# EAGLE library part USB-MICRO-B (library _USB_sockets)
USB MICRO B SOCKET 2 shielded pins
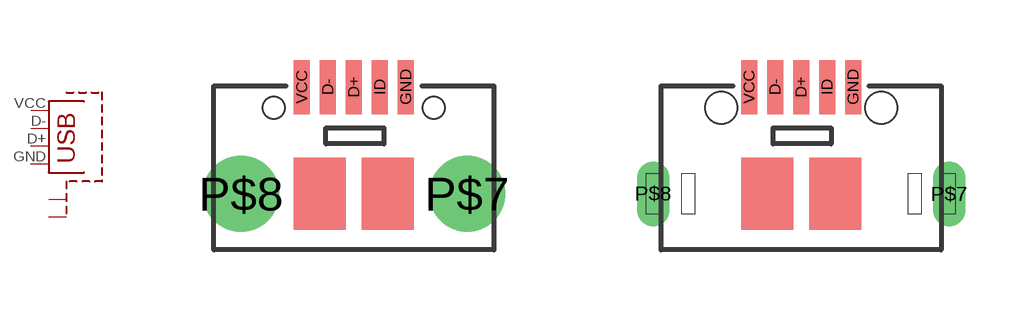
[diagram p1: symbol with the pads of USB-MICRO-B-5F; footprints USB-MICRO-B-5F, USB-MICRO-B-UNIVERSAL]

Designator prefix -

## USB-MICRO-B  [USB-MICRO-B-5F]
D+  D+
D-  D-
GND  GND
P$7  SHIELD1
P$8  SHIELD2
VCC  VBUS

## USB-MICRO-B-UNIVERSAL  [USB-MICRO-B-UNIVERSAL]
Pads as for USB-MICRO-B-5F

## USB-MICRO-B-EVT  [USB-MICRO-B-UNIVERSAL-SOLID-FOOTS]
D+  D+
D-  D-
GND  GND
P$1  SHIELD1
P$2  SHIELD2
VCC  VBUS

## Footprint USB-MICRO-B-5F (pad centres in mm)
USB Series Micro-B Surface mounted with holes
smd 0.4 x 1.35: D+ 0,-0.03; D- -0.65,-0.03; GND 1.3,-0.03; ID 0.65,-0.03; VCC -1.3,-0.03
drill 1.1 pad 1.9: P$7 2.83,-2.7; P$8 -2.82,-2.7
hole 0.55 at -2,-0.55
hole 0.55 at 2,-0.55

## Footprint USB-MICRO-B-UNIVERSAL (pad centres in mm)
It's universal micro-B socket adjustable for 2 different types of socket. Demand from the procurement unit, avoid materials in short supply. Holes need to be milled places on milling (46) layer
smd 0.4 x 1.35: D+ 0,-0.03; D- -0.65,-0.03; GND 1.3,-0.03; ID 0.65,-0.03; VCC -1.3,-0.03
drill 0.3 pad 0.813 long: P$7 3.7,-2.71; P$8 -3.7,-2.7
hole 0.8 at -2,-0.55
hole 0.8 at 2,-0.55

## Footprint USB-MICRO-B-UNIVERSAL-SOLID-FOOTS (pad centres in mm)
It's universal micro-B socket adjustable for 2 different types of socket (EVT-revision) . Demand from the procurement unit, avoid materials in short supply. Holes need to be milled places on milling (46) layer -- 5x1mm foot slots -- solid 2-sided foot rectangle
smd 0.4 x 1.35: D+ 0,-0.03; D- -0.65,-0.03; GND 1.3,-0.03; ID 0.65,-0.03; VCC -1.3,-0.03
smd 8.5 x 2: P$1 0,-2.7
smd 8.5 x 2 bottom: P$2 0,-2.7
hole 0.8 at -2,-0.55
hole 0.8 at 2,-0.55